# Altium footprint library XT60.PcbLib: 1 footprints
Each footprint in its own frame and in the unit in brackets; x right, y up, seen from the top. Pads: shape width x height; smd on the part's side, far side on the other; paste and mask are expansions set on the pad; w line width, h text height; cw(c..) or ccw(c..) is an arc to the next point about the centre after c.
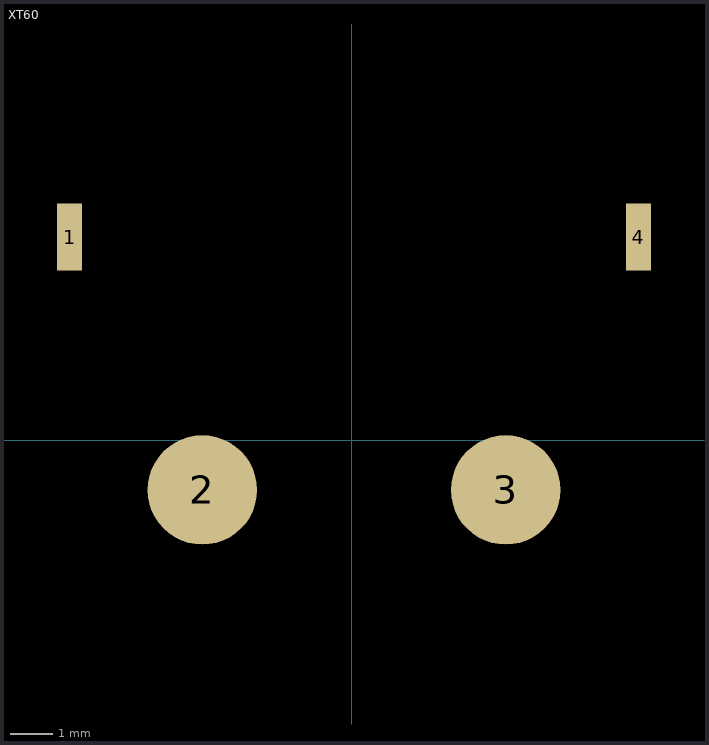
[diagram p0: the footprint, top view; thin cyan lines are the x and y axes]

## XT60 [mm]
pads (4):
  rect 0.6x1.6 all layers, no hole: 1(-6.7,4.825) 4(6.8,4.825)
  round 2.6 all layers, no hole: 2(-3.55,-1.175) 3(3.65,-1.175)